# EAGLE library part STM8S105K4T6CTR (library stm8)
8-Bit FLASH STM8 16MHz 2.95V~ 5.5V LQFP-32_7x7x08P ST Microelectronics RoHS
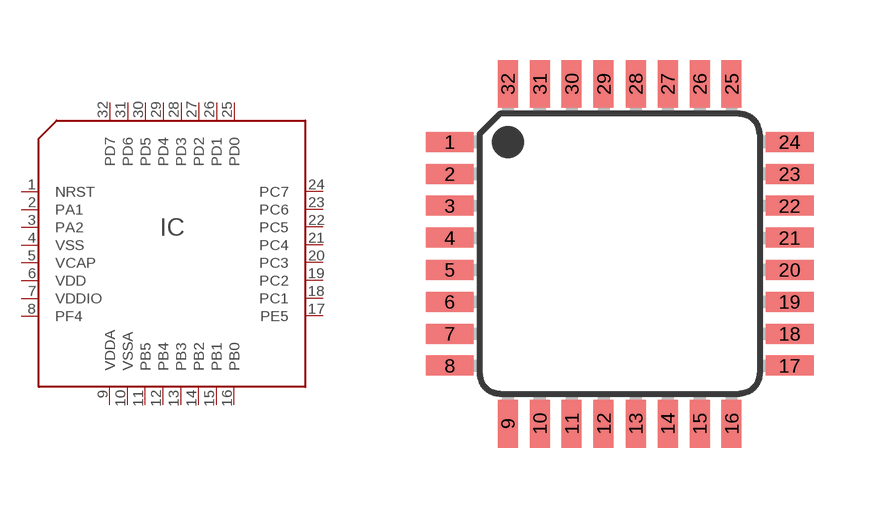
[diagram p4: symbol with the pads of LQFP32-7X7; footprint LQFP32-7X7]

Designator prefix IC

## STM8S105K4T6CTR (LCSC#: C84776; MANF: STMicroelectronics; MANF#: STM8S105K4T6CTR)  [LQFP32-7X7]
1  NRST
2  PA1
3  PA2
4  VSS
5  VCAP
6  VDD
7  VDDIO
8  PF4
9  VDDA
10  VSSA
11  PB5
12  PB4
13  PB3
14  PB2
15  PB1
16  PB0
17  PE5
18  PC1
19  PC2
20  PC3
21  PC4
22  PC5
23  PC6
24  PC7
25  PD0
26  PD1
27  PD2
28  PD3
29  PD4
30  PD5
31  PD6
32  PD7

## Footprint LQFP32-7X7 (pad centres in mm)
LQFP-32 package 7x7 mm case, 0.8 mm lead pitch Sourced: Data sheet <http://www.st.com/stonline/products/literature/ds/14771/stm8s105c4.pdf> 3D model <https://www.3dcontentcentral.com/secure/download-model.aspx?catalogid=171&id=401547>
smd 1.2 x 0.5: 1 -4.25,2.8; 2 -4.25,2; 3 -4.25,1.2; 4 -4.25,0.4; 5 -4.25,-0.4; 6 -4.25,-1.2; 7 -4.25,-2; 8 -4.25,-2.8; 17 4.25,-2.8; 18 4.25,-2; 19 4.25,-1.2; 20 4.25,-0.4; 21 4.25,0.4; 22 4.25,1.2; 23 4.25,2; 24 4.25,2.8
smd 0.5 x 1.2: 9 -2.8,-4.25; 10 -2,-4.25; 11 -1.2,-4.25; 12 -0.4,-4.25; 13 0.4,-4.25; 14 1.2,-4.25; 15 2,-4.25; 16 2.8,-4.25; 25 2.8,4.25; 26 2,4.25; 27 1.2,4.25; 28 0.4,4.25; 29 -0.4,4.25; 30 -1.2,4.25; 31 -2,4.25; 32 -2.8,4.25